# EAGLE library part BQ24075_RGT_16 (library Micro2)
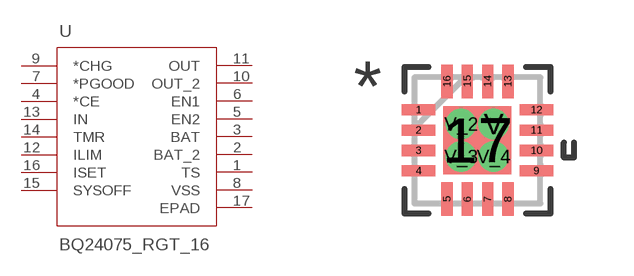
[diagram p11: symbol with the pads of RGT16_1P7X1P7; footprint RGT16_1P7X1P7]

Designator prefix U

## BQ24075_RGT_16 (DATASHEETURL: http://www.ti.com/lit/gpn/BQ24075; DESCRIPTION: USB-Friendly Li-Ion Battery Charger and Power-Path Management IC, Vout 5.5V; FAMILY_NAME: BATTERY CHARGE MANAGEMENT; GENERIC_PART_NUMBER: BQ24075; INDUSTRY_STD_PKG_TYPE: QFN; MANUFACTURER: Texas Instruments; PACKAGE_DESIGNATOR: RGT; PIN_COUNT: 16)  [RGT16_1P7X1P7]
1  TS  in
2  BAT_2
3  BAT
4  *CE  in
5  EN2  in
6  EN1  in
7  *PGOOD  out
8  VSS  pwr
9  *CHG  out
10  OUT_2  pwr
11  OUT  pwr
12  ILIM  in
13  IN  in
14  TMR  in
15  SYSOFF  in
16  ISET
17  EPAD  pwr

## Footprint RGT16_1P7X1P7 (pad centres in mm)
smd 0.838 x 0.279: 1 -1.473,0.762; 2 -1.473,0.254; 3 -1.473,-0.254; 4 -1.473,-0.762; 9 1.473,-0.762; 10 1.473,-0.254; 11 1.473,0.254; 12 1.473,0.762
smd 0.279 x 0.838: 5 -0.762,-1.473; 6 -0.254,-1.473; 7 0.254,-1.473; 8 0.762,-1.473; 13 0.762,1.473; 14 0.254,1.473; 15 -0.254,1.473; 16 -0.762,1.473
smd 1.702 x 1.702: 17 0,0
drill 0.254: V 0.406,0.406; V_2 -0.406,0.406; V_3 -0.406,-0.406; V_4 0.406,-0.406